# Altium footprint library RFAMP_juliend.PcbLib: 3 footprints
Each footprint in its own frame and in the unit in brackets; x right, y up, seen from the top. Pads: shape width x height; smd on the part's side, far side on the other; paste and mask are expansions set on the pad; w line width, h text height; cw(c..) or ccw(c..) is an arc to the next point about the centre after c.
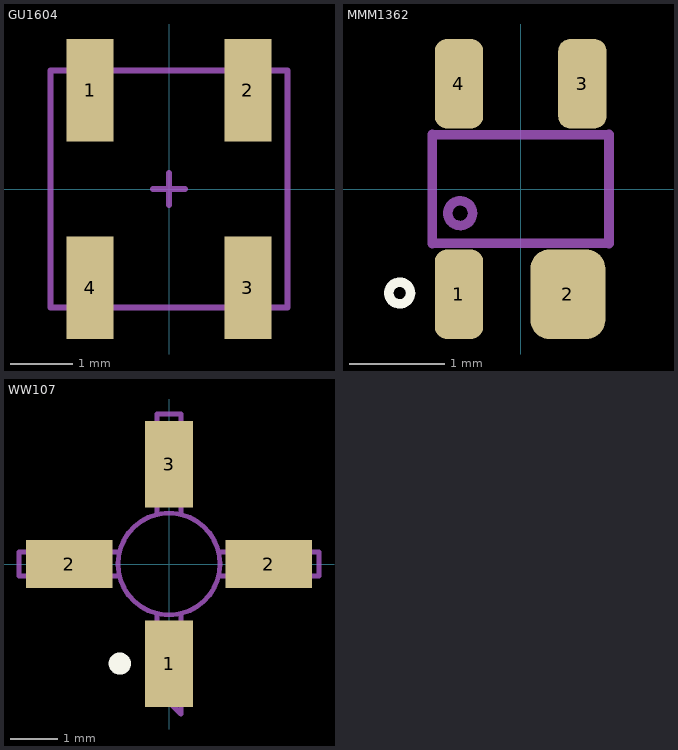
[diagram p0: the footprints below, top view; thin cyan lines are the x and y axes]

## GU1604 [mil]
pads (4):
  rect 30x65 smd: 1(-50,62.5) 2(50,62.5) 3(50,-62.5) 4(-50,-62.5)
Mechanical 13:
  circle w3.94: c-50.01,56 r10
  lines w4: -75,-75 -75,75 75,75 75,-75 -75,-75
Mechanical 15:
  lines w3.94: -10,0 10,0 ; 0,-10 0,10
3D body: height 31.89, standoff 31.5, extent -60,46 -40,66
3D body: height 141.73, standoff 47.24, extent -14.77,-42.32 14.76,42.32
3D body: height 141.73, standoff 47.24, extent 55.12,-42.32 70.86,42.32
3D body: height 141.73, standoff 47.24, extent -70.87,-42.32 -55.12,42.32
3D body: height 160, standoff 141.73, extent -75,-67 75,65
3D body: height 31.5, standoff 0, extent -75,-75 75,75
3D body: height 47.24, standoff 31.5, extent -70.87,-42.32 70.86,42.32
3D body: height 82.68, standoff 70.87, extent -51.18,-59.05 51.18,59.06
3D body: height 114.17, standoff 102.36, extent -51.18,-59.06 51.18,59.06
3D body: height 66.93, standoff 55.12, extent -51.18,-59.06 51.18,59.06
3D body: height 98.43, standoff 86.61, extent -51.18,-59.06 51.18,59.06
3D body: height 129.92, standoff 118.11, extent -51.18,-59.06 51.18,59.06

## MMM1362 [mil] "RF amplifier PSA4"
height 43.31
pads (4):
  rrect50% 20x37 smd: 1(-25.5,-43.5) 3(25.5,43.5) 4(-25.5,43.5)
  rrect50% 31x37 smd: 2(19.5,-43.5)
Top Overlay:
  circle w3.94: c-50,-43 r4.47
Mechanical 13:
  circle w3.94: c-25,-10 r5.1
  lines w3.94: -36.5,-22.5 36.5,-22.5 ; -36.5,22.5 36.5,22.5
  lines w4: -36.5,-22.5 -36.5,22.5 ; 36.5,-22.5 36.5,22.5
3D body: height 20, standoff 0, extent -31,22.5 -20,47
3D body: height 20, standoff 0, extent 20,22.5 31,47
3D body: height 20, standoff 0, extent -31,-47 -20,-22.5
3D body: height 20, standoff 0, extent 8,-47 31,-22.5
3D body: height 43, standoff 0, extent -36.5,-22.5 36.5,22.5
3D body: height 43.01, standoff 43, extent -32,-16.99 -18,-3

## WW107 [mil] "RF Amplifer MAR"
pads (4):
  rect 40x72 smd: 1(0,-83) 3(0,83)
  rect 72x40 smd: 2(-83,0) 2(83,0)
Top Overlay:
  circle w10: c-41,-83 r4.24
Mechanical 13:
  circle w4: c0,0 r42.5
  lines w4: -41,-10 -125,-10 -125,10 -41,10 ; -10,-41 -10,-105 10,-125 10,-41 ; -10,41 -10,125 10,125 10,41 ; 41,-10 125,-10 125,10 41,10
3D body: height 8, standoff 0, extent -10,-125 10,-41
3D body: height 8, standoff 0, extent 41,-10 125,10
3D body: height 8, standoff 0, extent -10,41 10,125
3D body: height 8, standoff 0, extent -125,-10 -41,10
3D body: height 60.01, standoff 60, extent -9.95,-35.98 9.97,-16.02
3D body: height 60, standoff 0, extent -42.16,-42.41 42.51,42.42